# EAGLE library part BJT-NP (library Transistor)
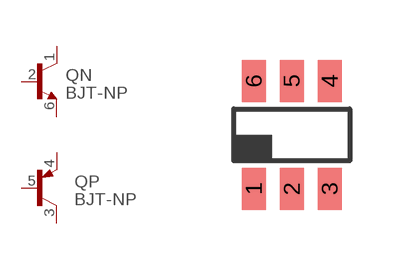
[diagram p1: symbol with the pads of SOT23-6; footprint SOT23-6]

Designator prefix Q; gates N=NPN P=PNP

## BJT-NP-SOT23  [SOT23-6]
1  N:C  pas
2  N:B  pas
3  P:C  pas
4  P:E  pas
5  P:B  pas
6  N:E  pas

## Footprint SOT23-6 (pad centres in mm)
smd 0.6 x 1.05: 1 -0.95,-1.35; 2 0,-1.35; 3 0.95,-1.35; 4 0.95,1.35; 5 0,1.35; 6 -0.95,1.35